# EAGLE library part AD8402ARZ10 (library cusotm_comps)
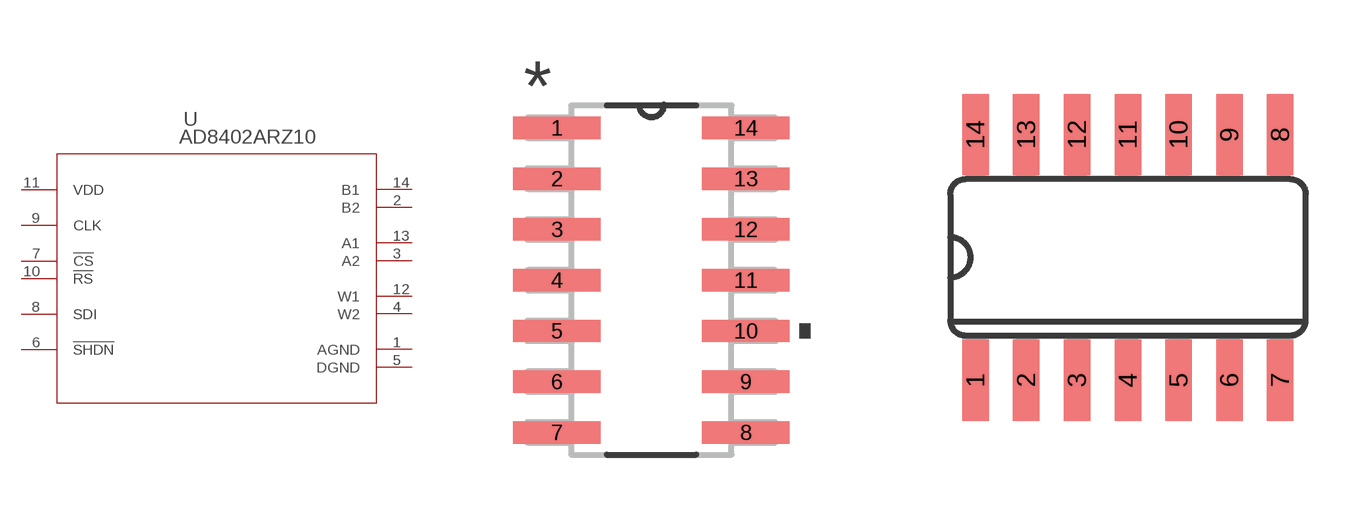
[diagram p0: symbol with the pads of R_14; footprints R_14, SO14]

Designator prefix U

## AD8402ARZ10  [R_14]
1  AGND  pas
2  B2  pas
3  A2  pas
4  W2  pas
5  DGND  pas
6  !SHDN  pas
7  !CS  pas
8  SDI  pas
9  CLK  pas
10  !RS  pas
11  VDD  pas
12  W1  pas
13  A1  pas
14  B1  pas

## AD8402ARZ10SO14  [SO14]
Pads as for R_14

## Footprint R_14 (pad centres in mm)
smd 2.184 x 0.559: 1 -2.362,3.81; 2 -2.362,2.54; 3 -2.362,1.27; 4 -2.362,0; 5 -2.362,-1.27; 6 -2.362,-2.54; 7 -2.362,-3.81; 8 2.362,-3.81; 9 2.362,-2.54; 10 2.362,-1.27; 11 2.362,0; 12 2.362,1.27; 13 2.362,2.54; 14 2.362,3.81

## Footprint SO14 (pad centres in mm)
Small Outline package 150 mil
smd 0.66 x 2.032: 1 -3.81,-3.073; 2 -2.54,-3.073; 3 -1.27,-3.073; 4 0,-3.073; 5 1.27,-3.073; 6 2.54,-3.073; 7 3.81,-3.073; 8 3.81,3.073; 9 2.54,3.073; 10 1.27,3.073; 11 0,3.073; 12 -1.27,3.073; 13 -2.54,3.073; 14 -3.81,3.073